# EAGLE library part SWITCH_NIKKAI-MRF206 (library 1A-meinLib)
Half-Inch Diameter sealed Rotary, 2x6, MRF206, MRK206, nikkai
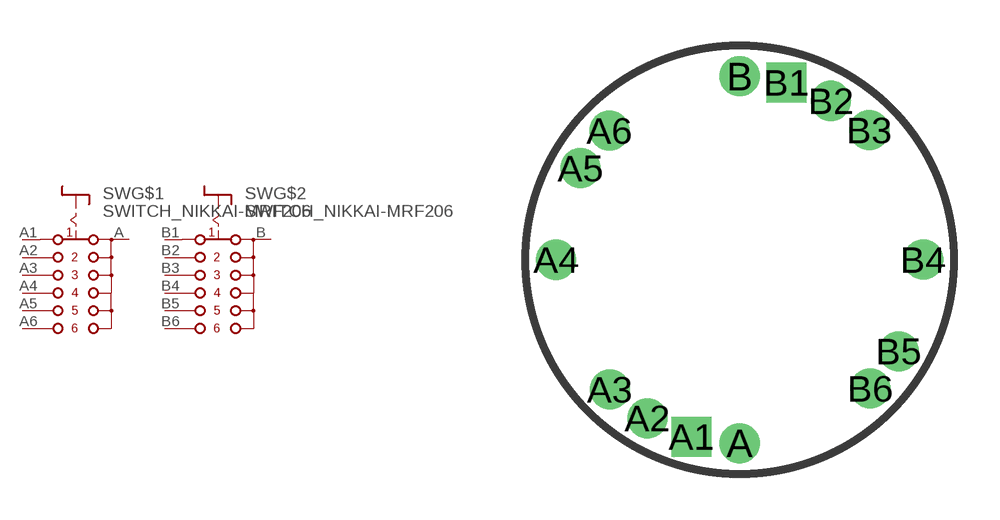
[diagram p328: symbol with the pads of SWITCH_NIKKAI-MRF206; footprint SWITCH_NIKKAI-MRF206]

Designator prefix SW; gates G$1=SWITCH-6POL G$2=SWITCH-6POL

## SWITCH_NIKKAI-MRF206  [SWITCH_NIKKAI-MRF206]
A  G$1:A  pas
A1  G$1:1  pas
A2  G$1:2  pas
A3  G$1:3  pas
A4  G$1:4  pas
A5  G$1:5  pas
A6  G$1:6  pas
B  G$2:A  pas
B1  G$2:1  pas
B2  G$2:2  pas
B3  G$2:3  pas
B4  G$2:4  pas
B5  G$2:5  pas
B6  G$2:6  pas

## Footprint SWITCH_NIKKAI-MRF206 (pad centres in mm)
Half-Inch Diameter sealed Rotary, 2x6, MRF206, MRK206, nikkai
drill 0.8 round: A 0,-6; A2 -3.018,-5.184; A3 -4.245,-4.245; A4 -6,0; A5 -5.207,2.992; A6 -4.262,4.225; B 0,6; B2 2.991,5.198; B3 4.242,4.24; B4 6,0.002; B5 5.199,-2.994; B6 4.271,-4.215
drill 0.8 square: A1 -1.574,-5.791; B1 1.531,5.8